# Altium schematic symbol library SCH - INTERFACE - CAN - PESD1CAN.SCHLIB: 1 symbol
Pins are listed as number, name and electrical type; pins without a type are passive.

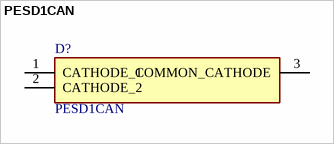
[diagram p0: symbol PESD1CAN]

## PESD1CAN
designator D?
Diode
pins: 1 CATHODE_1, 2 CATHODE_2, 3 COMMON_CATHODE